# Altium schematic symbol library docu-dummy.SCHLIB: 1 symbol
Pins are listed as number, name and electrical type; pins without a type are passive.

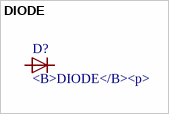
[diagram p0: symbol DIODE]

## DIODE
designator D?, comment <B>DIODE</B><p>